# Altium schematic symbol library SCH - DIODES - LED - Addr RGB.SCHLIB: 1 symbol
Pins are listed as number, name and electrical type; pins without a type are passive.

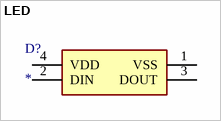
[diagram p0: symbol LED]

## LED
designator D?
LED; Manufacturer_Name: Lite-On; Manufacturer_Part_Number: LTST-E563CEGBW; Description: LED Tri-Color Blue/Green/Red 4-Pin SMD T/R; Datasheet Link: https://optoelectronics.liteon.com/upload/download/DS35-2018-0038/LTST-E563CEGBW.PDF; Height: 1.62mm; Mouser Part Number: 859-LTST-E563CEGBW; Mouser Price/Stock: https://www.mouser.co.uk/ProductDetail/Lite-On/LTST-E563CEGBW?qs=qSfuJ%252Bfl%2Fd4%2FY40RqQoU0g%3D%3D; Arrow Part Number: LTST-E563CEGBW; Arrow Price/Stock: https://www.arrow.com/en/products/ltst-e563cegbw/lite-on-technology?region=nac
footprint LTSTE563CEGBW
pins: 1 VSS, 2 DIN, 3 DOUT, 4 VDD